# Altium integrated library TissueAltium_Schematic_Footprints.IntLib: 13 symbols
Pins are listed as number, name and electrical type; pins without a type are passive.

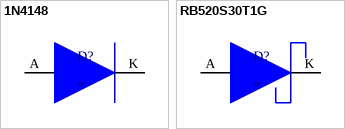
[diagram p0: symbols 1N4148 to RB520S30T1G]

## 1N4148
designator D?
Small Signal Fast Switching Diodes
footprint 1N4148W (Fast Switching SMD Diode)
pins: A Anode, K Cathode

## RB520S30T1G
designator D?
Schottky Barrier Diode;
footprint RB520S30T1G
pins: A Anode, K Cathode


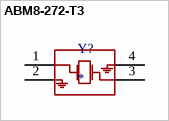
[diagram p1: symbol ABM8-272-T3]

## ABM8-272-T3
designator Y?
12 MHz ±30ppm Crystal 10pF 50 Ohms 4-SMD, No Lead
footprint ABM8-272-T3 (CRYSTAL 12.0000MHZ 10PF SMD)
pins: 1, 2, 3, 4


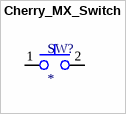
[diagram p2: symbol Cherry_MX_Switch]

## Cherry_MX_Switch
designator SW?
2 Pin Cherry MX Switch
footprint Cherry MX 2 Pin (A Cherry MX Switch with 2 Mounting Holes)
pins: 1 4, 2 4


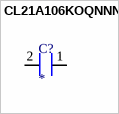
[diagram p3: symbol CL21A106KOQNNNE]

## CL21A106KOQNNNE
designator C?
Multilayer Ceramic Capacitors MLCC - SMD/SMT 10uF+/-10% 16V X5R 2 0805
footprint CL21A106KOQNNNE (CAP CER 10UF 16V X5R 0805)
pins: 1   , 2


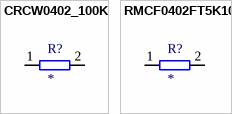
[diagram p4: symbols CRCW0402_100K to RMCF0402FT5K10]

## CRCW0402_100K
designator R?
CRCW0402 SMD Resistor
footprint CRCW0402_100K
pins: 1 6, 2 6

## RMCF0402FT5K10
designator R?
RES 5.1K OHM 1% 1/16W 0402
footprint RMCF0402FT5K10 (RES 5.1K OHM 1% 1/16W 0402)
pins: 1 6, 2 6


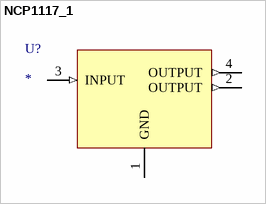
[diagram p5: symbol NCP1117_1]

## NCP1117_1
designator U?
IC REG LINEAR 3.3V 1A SOT-223
footprint NCP1117 (IC REG LINEAR 3.3V 1A SOT-223)
pins: 1 GND (power), 2 OUTPUT (out), 3 INPUT (in), 4 OUTPUT (out)


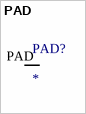
[diagram p6: symbol PAD]

## PAD
designator PAD?
A simple semi circle pad
footprint Semi Circle PAD
pins: PAD


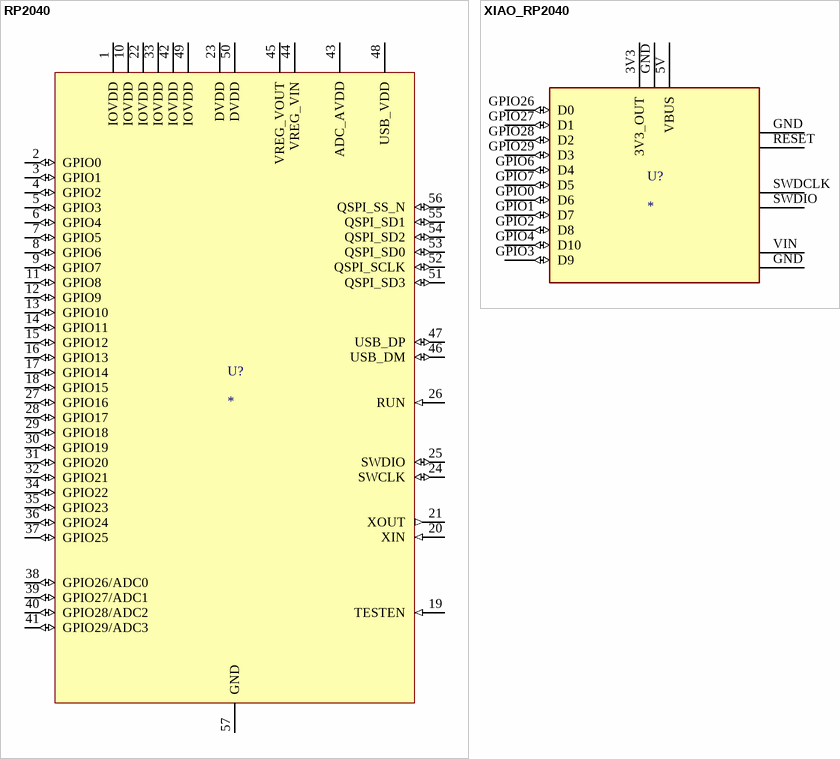
[diagram p7: symbols RP2040 to XIAO_RP2040]

## RP2040
designator U?
Raspberry RP2040 MCU
footprint RP2040 (Raspberry Pi RP2040)
pins: 1 IOVDD (power), 2 GPIO0 (io), 3 GPIO1 (io), 4 GPIO2 (io), 5 GPIO3 (io), 6 GPIO4 (io), 7 GPIO5 (io), 8 GPIO6 (io), 9 GPIO7 (io), 10 IOVDD (power), 11 GPIO8 (io), 12 GPIO9 (io), 13 GPIO10 (io), 14 GPIO11 (io), 15 GPIO12 (io), 16 GPIO13 (io), 17 GPIO14 (io), 18 GPIO15 (io), 19 TESTEN (in), 20 XIN (in), 21 XOUT (out), 22 IOVDD (power), 23 DVDD (power), 24 SWCLK (io), 25 SWDIO (io), 26 RUN (in), 27 GPIO16 (io), 28 GPIO17 (io), 29 GPIO18 (io), 30 GPIO19 (io), 31 GPIO20 (io), 32 GPIO21 (io), 33 IOVDD (power), 34 GPIO22 (io), 35 GPIO23 (io), 36 GPIO24 (io), 37 GPIO25 (io), 38 GPIO26/ADC0 (io), 39 GPIO27/ADC1 (io), 40 GPIO28/ADC2 (io), 41 GPIO29/ADC3 (io), 42 IOVDD (power), 43 ADC_AVDD (power), 44 VREG_VIN (power), 45 VREG_VOUT (power), 46 USB_DM (io), 47 USB_DP (io), 48 USB_VDD (power), 49 IOVDD (power), 50 DVDD (power), 51 QSPI_SD3 (io), 52 QSPI_SCLK (io), 53 QSPI_SD0 (io), 54 QSPI_SD2 (io), 55 QSPI_SD1 (io), 56 QSPI_SS_N (io), 57 GND (power)

## XIAO_RP2040
designator U?
Seed Studio XIAO_RP2040 MCU Board
footprint XIAO_RP2040 (Seed Studio Microcontroller, Mini and compact using the RP2040 Chip)
pins: 3V3 3V3_OUT (power), 5V VBUS (power), GND, GND, GND, GPIO0 D6 (io), GPIO1 D7 (io), GPIO2 D8 (io), GPIO3 D9 (io), GPIO4 D10 (io), GPIO6 D4 (io), GPIO7 D5 (io), GPIO26 D0 (io), GPIO27 D1 (io), GPIO28 D2 (io), GPIO29 D3 (io), RESET, SWDCLK, SWDIO, VIN


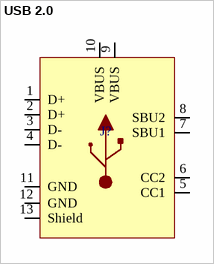
[diagram p8: symbol USB 2.0]

## USB 2.0
designator J?, comment UJ20-C-H-G-SMT-1-P16-TR  (value not drawn)
CONN RCPT USB 2.0 TYPE C SMD RA
footprint USB 2.0 (UJ20-C-H-G-SMT-1-P16-TR)
pins: 1 D+, 2 D+, 3 D-, 4 D-, 5 CC1, 6 CC2, 7 SBU1, 8 SBU2, 9 VBUS (power), 10 VBUS (power), 11 GND (power), 12 GND (power), 13 Shield


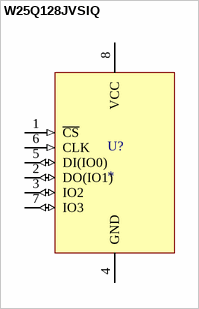
[diagram p9: symbol W25Q128JVSIQ]

## W25Q128JVSIQ
designator U?
NOR Flash spiFlash, 3V, 128M-bit, 4Kb Uniform Sector
footprint W25Q128JVSIQ (NOR Flash spiFlash, 3V, 128M-bit, 4Kb Uniform Sector)
pins: 1 ~{CS} (in), 2 DO(IO1) (io), 3 IO2 (io), 4 GND (power), 5 DI(IO0) (io), 6 CLK (in), 7 IO3 (io), 8 VCC (power)